# Altium footprint library DRF1605 -Protell-DXP.PCBLIB: 1 footprints
Each footprint in its own frame and in the unit in brackets; x right, y up, seen from the top. Pads: shape width x height; smd on the part's side, far side on the other; paste and mask are expansions set on the pad; w line width, h text height; cw(c..) or ccw(c..) is an arc to the next point about the centre after c.
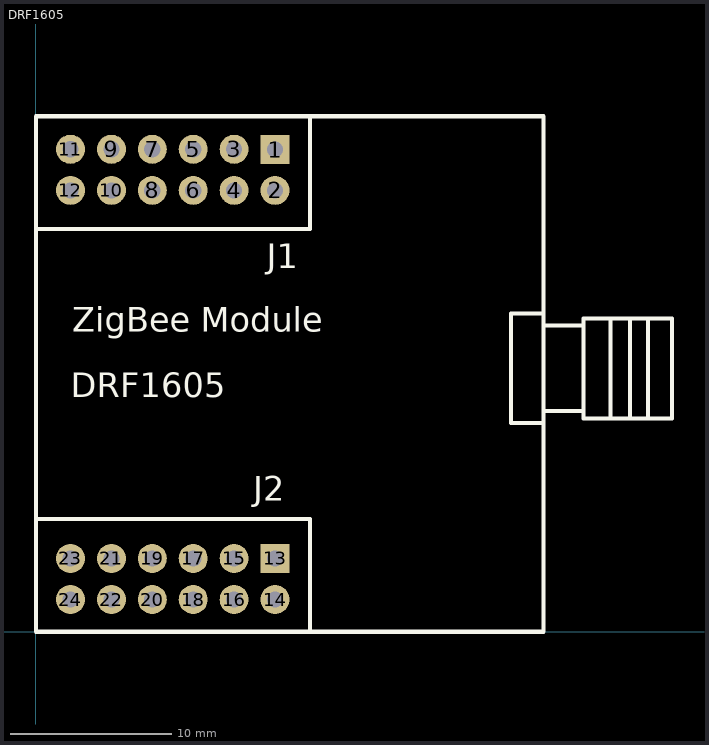
[diagram p0: the footprint, top view; thin cyan lines are the x and y axes]

## DRF1605 [mm]
pads (24):
  rect 1.8x1.8 hole 1: 1(14.85,29.925) 13(14.85,4.55)
  round 1.8 hole 1: 2(14.85,27.4) 3(12.31,29.95) 4(12.31,27.4) 5(9.77,29.95) 6(9.77,27.4) 7(7.23,29.95) 8(7.23,27.4) 9(4.69,29.95) 10(4.69,27.4) 11(2.15,29.95) 12(2.15,27.4) 14(14.85,2) 15(12.31,4.55) 16(12.31,2) 17(9.77,4.55) 18(9.77,2) 19(7.23,4.55) 20(7.23,2) 21(4.69,4.55) 22(4.69,2) 23(2.15,4.55) 24(2.15,2)
Top Overlay:
  lines w0.254: 0,7 17.025,7 17.025,0 ; 0,25 17.025,25 17.025,32 ; 31.5,12.95 29.5,12.95 29.5,19.75 31.5,19.75 ; 35.675,19.45 35.675,13.275 35.7,13.25 ; 36.875,19.45 36.875,13.275 36.9,13.25 ; 38,13.25 38,19.45 ; 0,0 31.5,0 31.5,32 0,32 0,0 ; 31.5,13.7 31.5,19 34,19 34,13.7 31.5,13.7 ; 34,13.25 34,19.45 39.5,19.45 39.5,13.25 34,13.25
  text "J1" at 14.325,22.55 h1.52
  text "J2" at 13.5,8.125 h1.52
  text "ZigBee Module" at 2.25,18.625 h1.52
  text "DRF1605" at 2.175,14.55 h1.52